# Altium footprint library CAP_WSKJ.PcbLib: 20 footprints (part 2 of 2)
Each footprint in its own frame and in the unit in brackets; x right, y up, seen from the top. Pads: shape width x height; smd on the part's side, far side on the other; paste and mask are expansions set on the pad; w line width, h text height; cw(c..) or ccw(c..) is an arc to the next point about the centre after c.
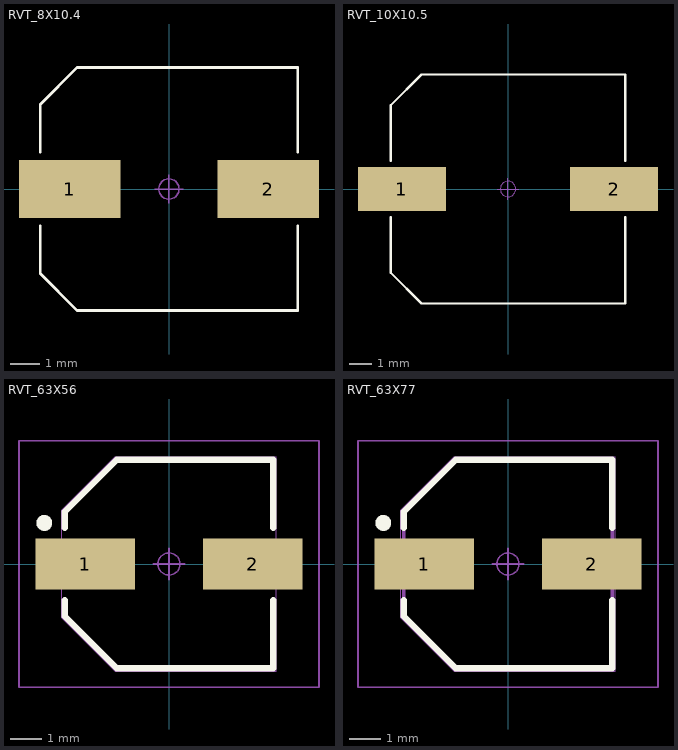
[diagram p1: the footprints below, top view; thin cyan lines are the x and y axes]

## RVT_8X10.4 [mm]
height 1.84
pads (2):
  rect 3.5x2 smd: 1(-3.429,0) 2(3.429,0)
Top Overlay:
  lines w0.1: -4.445,-1.27 -4.445,-2.921 -3.175,-4.191 4.445,-4.191 4.445,-1.27 ; -4.445,1.27 -4.445,2.921 -3.175,4.191 4.445,4.191 4.445,1.27
Mechanical 16:
  circle w0.05: c0,0 r0.35
  lines w0.05: -0.5,0 0.5,0 ; 0,-0.5 0,0.5
3D body "User Library-SMD Polymer Aluminum Electrolytic Capacitors E7 56uF 16V.STEP": height 6.9, standoff -0.05, extent -4.5,-4.15 4.5,4.15

## RVT_10X10.5 [mm]
height 1.84
pads (2):
  rect 4x2 smd: 1(-4.826,0) 2(4.826,0)
Top Overlay:
  lines w0.1: -5.334,-1.27 -5.334,-3.81 -3.937,-5.207 5.334,-5.207 5.334,-1.27 ; -5.334,1.27 -5.334,3.81 -3.937,5.207 -3.302,5.207 5.334,5.207 5.334,1.27
Mechanical 16:
  circle w0.05: c0,0 r0.35
  lines w0.05: -0.5,0 0.5,0 ; 0,-0.5 0,0.5
3D body "User Library-10x10_5.STEP": height 10.8, standoff 0, extent -5.65,-5.15 5.65,5.15

## RVT_63X56 [mm]
pads (2):
  rect 3.15x1.6 smd: 1(-2.65,0) 2(2.65,0)
Top Overlay:
  circle w0.25: c-3.95,1.3 r0.125
  lines w0.2: -3.3,-1.15 -3.3,-1.65 -1.65,-3.3 3.3,-3.3 3.3,-1.15 ; -3.3,1.15 -3.3,1.65 -1.65,3.3 3.3,3.3 3.3,1.15
Mechanical 16:
  circle w0.05: c0,0 r0.35
  lines w0.001: -3.4,-1.7 -1.7,-3.4 3.4,-3.4 3.4,3.4 -1.7,3.4 -3.4,1.7 -3.4,-1.7
  lines w0.05: -0.5,0 0.5,0 ; 0,-0.5 0,0.5 ; -4.75,-3.9 4.75,-3.9 4.75,3.9 -4.75,3.9 -4.75,-3.9
3D body "6.3x5.6mm.STEP": height 5.65, standoff 0, extent -3.698,-3.302 3.302,3.298

## RVT_63X77 [mm]
pads (2):
  rect 3.15x1.6 smd: 1(-2.65,0) 2(2.65,0)
Top Overlay:
  circle w0.25: c-3.95,1.3 r0.125
  lines w0.2: -3.3,-1.15 -3.3,-1.65 -1.65,-3.3 3.3,-3.3 3.3,-1.15 ; -3.3,1.15 -3.3,1.65 -1.65,3.3 3.3,3.3 3.3,1.15
Mechanical 1:
  lines w0.1: -3.3,-1.65 -3.3,1.65 -1.65,3.3 3.3,3.3 3.3,-3.3 -1.65,-3.3 -3.3,-1.65
Mechanical 16:
  circle w0.05: c0,0 r0.35
  lines w0.001: -3.4,-1.7 -3.4,1.7 -1.7,3.4 3.4,3.4 3.4,-3.4 -1.7,-3.4 -3.4,-1.7
  lines w0.05: -0.5,0 0.5,0 ; 0,-0.5 0,0.5 ; -4.75,-3.9 -4.75,3.9 4.75,3.9 4.75,-3.9 -4.75,-3.9
3D body "User Library-CC0607.STEP": height 8.11, standoff 0, extent -3.5,-3.3 3.5,3.3